# EAGLE library part 0527451033 (library 52745-1033)
0527451033 Molex Flat flexible connector- compatible with FPC 15166, 98266, 15266, 15366. Purchase at Mouser <https://www.mouser.com/ProductDetail/Molex/52745-1033?qs=BTG2th8YmhQFZ5o%2FAYhoXg%3D%3D>
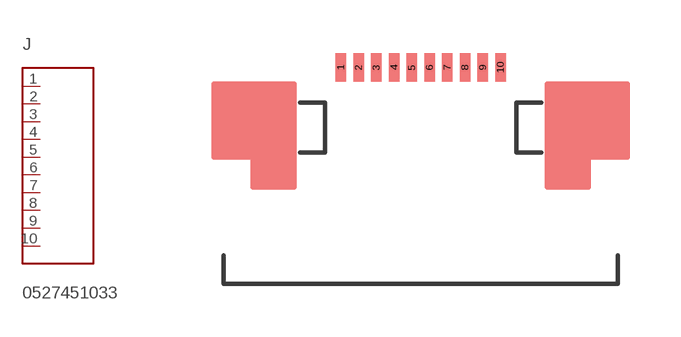
[diagram p0: symbol with the pads of 52745-1033; footprint 52745-1033]

Designator prefix J

## 0527451033  [52745-1033]
1  P$1
2  P$2
3  P$3
4  P$4
5  P$5
6  P$6
7  P$7
8  P$8
9  P$9
10  P$10

## Footprint 52745-1033 (pad centres in mm)
smd 0.3 x 0.8: 1 -2.25,0; 2 -1.75,0; 3 -1.25,0; 4 -0.75,0; 5 -0.25,0; 6 0.25,0; 7 0.75,0; 8 1.25,0; 9 1.75,0; 10 2.25,0